# Altium schematic symbol library MKP_Capacitor.SchLib: 15 symbols
Pins are listed as number, name and electrical type; pins without a type are passive.

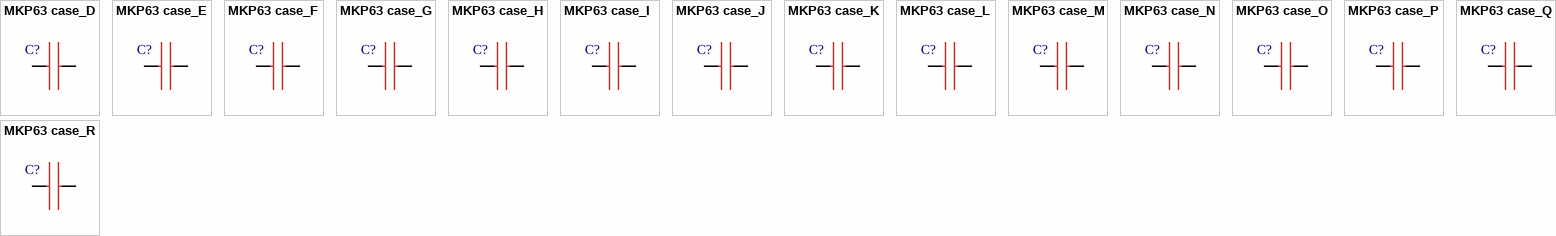
[diagram p0: symbols MKP63 case_D to MKP63 case_R]

## MKP63 case_D
designator C?, comment 1nF  (value not drawn)
value: 1.5nF; value: 2.2nF; value: 3.3nF; value: 4.7nF; value: 1nF
pins: 1, 2

## MKP63 case_E
designator C?, comment 6.8nF  (value not drawn)
value: 6.8nF
pins: 1, 2

## MKP63 case_F
designator C?, comment 10nF  (value not drawn)
value: 10nF
pins: 1, 2

## MKP63 case_G
designator C?, comment 12nF  (value not drawn)
value: 15nF; value: 12nF
pins: 1, 2

## MKP63 case_H
designator C?, comment 18nF  (value not drawn)
value: 22nF; value: 18nF
pins: 1, 2

## MKP63 case_I
designator C?, comment 27nF  (value not drawn)
value: 33nF; value: 27nF
pins: 1, 2

## MKP63 case_J
designator C?, comment 39nF  (value not drawn)
value: 47nF; value: 39nF
pins: 1, 2

## MKP63 case_K
designator C?, comment 56nF  (value not drawn)
value: 68nF; value: 56nF
pins: 1, 2

## MKP63 case_L
designator C?, comment 82nF  (value not drawn)
value: 100nF; value: 82nF
pins: 1, 2

## MKP63 case_M
designator C?, comment 120nF  (value not drawn)
value: 150nF; value: 120nF
footprint case M
pins: 1, 2

## MKP63 case_N
designator C?, comment 180nF  (value not drawn)
value: 220nF; value: 180nF
pins: 1, 2

## MKP63 case_O
designator C?, comment 270nF  (value not drawn)
value: 330nF; value: 270nF
pins: 1, 2

## MKP63 case_P
designator C?, comment 390nF  (value not drawn)
value: 470nF; value: 390nF
pins: 1, 2

## MKP63 case_Q
designator C?, comment 560nF  (value not drawn)
value: 680nF; value: 560nF
pins: 1, 2

## MKP63 case_R
designator C?, comment 820nF  (value not drawn)
value: 1uF; value: 820nF
pins: 1, 2